# Altium footprint library Terminal_Board_PCB V4.PcbLib: 5 footprints
Each footprint in its own frame and in the unit in brackets; x right, y up, seen from the top. Pads: shape width x height; smd on the part's side, far side on the other; paste and mask are expansions set on the pad; w line width, h text height; cw(c..) or ccw(c..) is an arc to the next point about the centre after c.
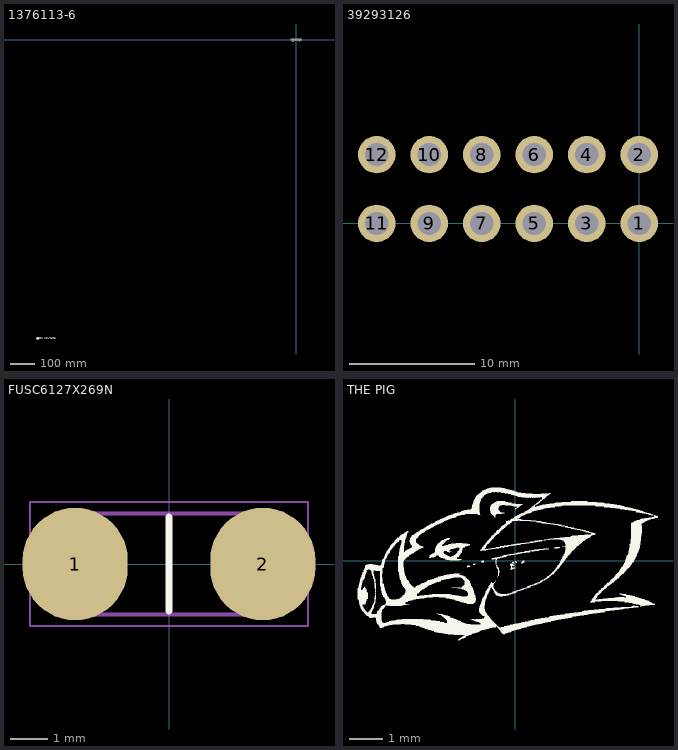
[diagram p0: the footprints below, top view; thin cyan lines are the x and y axes]

## 1376113-6 [mil]
pads (42):
  round 0 hole 114.49 unplated: 0(-605,-230) 0(480,-235)
  round 70 hole 40: 1(-866.14,118.11) 2(-866.14,0) 3(-779.53,118.11) 4(-779.53,0) 5(-692.91,118.11) 6(-692.91,0) 7(-606.3,118.11) 8(-606.3,0) 9(-519.68,118.11) 10(-519.68,0) 11(-433.07,118.11) 12(-433.07,0) 13(-346.46,118.11) 14(-346.46,0) 15(-259.84,118.11) 16(-259.84,0) 17(-173.23,118.11) 18(-173.23,0) 19(-86.61,118.11) 20(-86.61,0) 21(0,118.11) 22(0,0) 23(86.61,118.11) 24(86.61,0) 25(173.23,118.11) 26(173.23,0) 27(259.84,118.11) 28(259.84,0) 29(346.46,118.11) 30(346.46,0) 31(433.07,118.11) 32(433.07,0) 33(519.68,118.11) 34(519.68,0) 35(606.3,118.11) 36(606.3,0) 37(692.91,118.11) 38(692.91,0) 39(779.53,118.11) 40(779.53,0)
Top Overlay:
  region: -42017.14,-48322.49 -42038.17,-48396.12 -42010,-48385 -42023.21,-48431.23 -42040.84,-48431.23 -42016.23,-48455.84 -41991.63,-48431.23 -42008.5,-48431.23 -41984.21,-48353.94 -42017.98,-48370.82 -41993.82,-48322.49
  lines w30: -42006.87,-48246.85 -41869.88,-48484.13 -42145.11,-48484.13 -42005.69,-48246.17
  text "HIGH VOLTAGE" at -42195,-48555 h30
3D body "c-1376113-6-e-3d.stp": height 940, standoff -138.74, extent -1015,-321.18 929.89,281.19

## 39293126 [mm]
pads (12):
  round 3 hole 1.85: 1(0,0) 2(0,5.5) 3(-4.2,0) 4(-4.2,5.5) 5(-8.4,0) 6(-8.4,5.5) 7(-12.6,0) 8(-12.6,5.5) 9(-16.8,0) 10(-16.8,5.5) 11(-21,0) 12(-21,5.5)
3D body "039293126.stp": height 2.99, standoff -13.31, extent -24.1,-2.3 3.1,8.7

## FUSC6127X269N [mm]
pads (2):
  rrect100% 2.8x3 smd: 1(-2.5,0) 2(2.5,0)
Top Overlay:
  lines w0.2: 0,-1.245 0,1.245
Mechanical 13:
  lines w0.1: -3.05,-1.345 -3.05,1.345 3.05,1.345 3.05,-1.345 -3.05,-1.345
Mechanical 15:
  lines w0.05: -3.705,-1.65 -3.705,1.65 3.705,1.65 3.705,-1.65 -3.705,-1.65
3D body "0451.750MRL.stp": height 2.69, standoff 0, extent -3.05,-1.345 3.05,1.345

## HV Symbol [mm]

## THE PIG [mm]
Top Overlay:
  drawing of 19 lines, arcs and shapes, not listed